# Altium footprint library LDR_Sensor_PCBLib.PcbLib: 5 footprints
Each footprint in its own frame and in the unit in brackets; x right, y up, seen from the top. Pads: shape width x height; smd on the part's side, far side on the other; paste and mask are expansions set on the pad; w line width, h text height; cw(c..) or ccw(c..) is an arc to the next point about the centre after c.
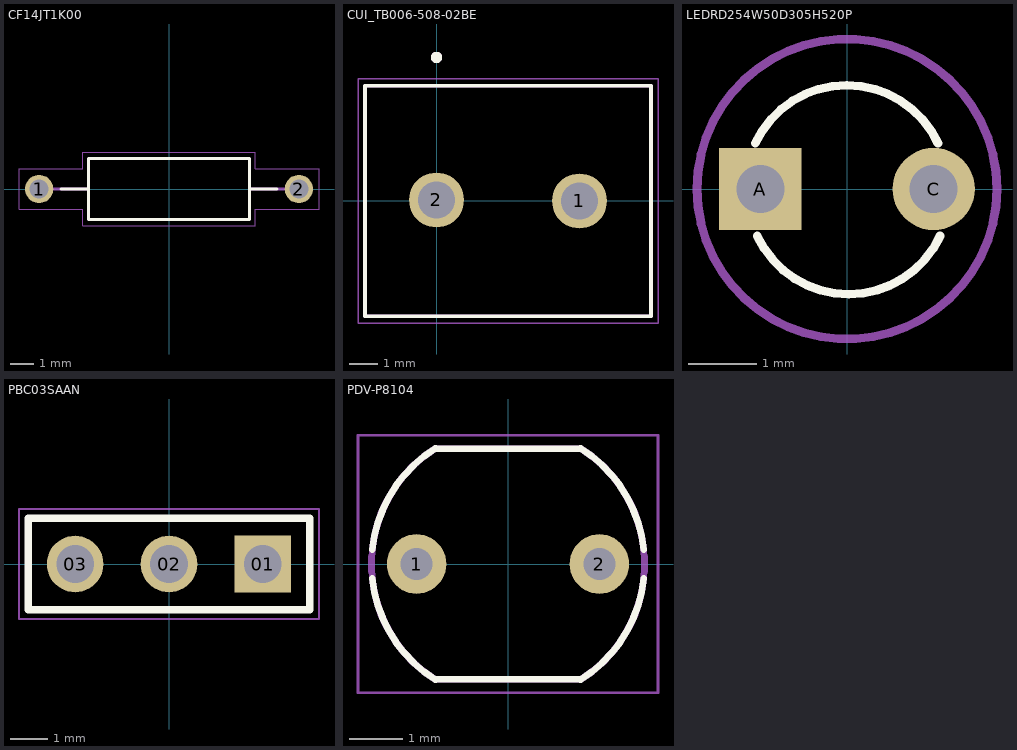
[diagram p0: the footprints below, top view; thin cyan lines are the x and y axes]

## CF14JT1K00 [mm]
height 2.6
pads (2):
  round 1.2 hole 0.8: 1(-5.5,0) 2(5.5,0)
Top Overlay:
  lines w0.127: -4.58,0 -3.4,0 ; 4.58,0 3.4,0 ; -3.4,0 -3.4,-1.3 3.4,-1.3 3.4,0 ; -3.4,0 -3.4,1.3 3.4,1.3 3.4,0
Mechanical 13:
  lines w0.127: -4.9,0 -3.4,0 ; 4.9,0 3.4,0 ; -3.4,0 -3.4,-1.3 3.4,-1.3 3.4,0 ; -3.4,0 -3.4,1.3 3.4,1.3 3.4,0
Mechanical 15:
  lines w0.05: -6.35,-0.85 -6.35,0.85 -3.65,0.85 -3.65,1.55 3.65,1.55 3.65,0.85 6.35,0.85 6.35,-0.85 3.65,-0.85 3.65,-1.55 -3.65,-1.55 -3.65,-0.85 -6.35,-0.85
3D body "step_temp.STEP": height 3.66, standoff -25.68, extent -5.775,-1.2 5.775,1.2

## CUI_TB006-508-02BE [mm]
pads (2):
  round 1.95 hole 1.3: 1(5.08,0) 2(-0.001,0.035)
Top Overlay:
  circle w0.2: c0,5.1 r0.1
  lines w0.127: -2.54,-4.1 7.62,-4.1 7.62,4.1 -2.54,4.1 -2.54,-4.1
Mechanical 13:
  circle w0.2: c0,5.1 r0.1
  lines w0.127: -2.54,-4.1 7.62,-4.1 7.62,4.1 -2.54,4.1 -2.54,-4.1
Mechanical 15:
  lines w0.05: -2.79,-4.35 -2.79,4.35 7.87,4.35 7.87,-4.35 -2.79,-4.35
3D body "step_temp.STEP": height 10, standoff -3.8, extent -2.79,-4.064 7.87,4.136

## LEDRD254W50D305H520P [mm]
pads (2):
  rect 1.208x1.208 hole 0.7: A(-1.27,0)
  round 1.208 hole 0.7: C(1.27,0)
Top Overlay:
  lines w0.127: -1.345,0.67 cw(c-0.005,0.045) 1.335,0.67 ; -1.315,-0.69 ccw(c0.025,-0.065) 1.365,-0.69
Mechanical 15:
  circle w0.127: c0,0 r2.2
3D body "step_temp.STEP": height 6.71, standoff -16.74, extent -1.587,-1.902 1.905,1.902

## PBC03SAAN [mm]
pads (3):
  rect 1.53x1.53 / inner round 1.53 / far side rect 1.53x1.53 hole 1.02: 01(2.54,0)
  round 1.53 hole 1.02: 02(0,0) 03(-2.54,0)
Top Overlay:
  lines w0.2: -3.81,-1.24 -3.81,1.24 3.81,1.24 3.81,-1.24 -3.81,-1.24
Mechanical 13:
  lines w0.1: -3.81,-1.24 3.81,-1.24 3.81,1.24 -3.81,1.24 -3.81,-1.24
Mechanical 15:
  lines w0.05: -4.06,-1.49 4.06,-1.49 4.06,1.49 -4.06,1.49 -4.06,-1.49

## PDV-P8104 [mm]
pads (2):
  round 1.108 hole 0.6: 1(-1.7,0) 2(1.7,0)
Top Overlay:
  lines w0.127: -2.526,-0.265 ccw(c0.001,0.001) -1.346,-2.154 ; -2.526,0.265 cw(c0.001,-0.001) -1.346,2.154 ; -1.36,2.145 1.36,2.145 ; 1.346,-2.154 ccw(c-0.001,0.001) 2.526,-0.265 ; 1.346,2.154 cw(c-0.001,-0.001) 2.526,0.265 ; 1.36,-2.145 -1.36,-2.145 ; -1.36,-2.145 -1.36,-2.145 ; 1.36,2.145 1.36,2.145
Mechanical 13:
  lines w0.127: -1.36,-2.145 1.36,-2.145 ; -1.36,2.145 1.36,2.145 ; -1.346,-2.154 cw(c0,0) -1.346,2.154 ; 1.346,-2.154 ccw(c0,0) 1.346,2.154
Mechanical 15:
  lines w0.05: -2.79,-2.395 2.79,-2.395 2.79,2.395 -2.79,2.395 -2.79,-2.395
3D body "step_temp.STEP": height 2.38, standoff -26, extent -2.54,-2.145 2.54,2.145